# Altium footprint library TerminalBlock_Phoenix.PcbLib: 126 footprints (part 8 of 8)
Each footprint in its own frame and in the unit in brackets; x right, y up, seen from the top. Pads: shape width x height; smd on the part's side, far side on the other; paste and mask are expansions set on the pad; w line width, h text height; cw(c..) or ccw(c..) is an arc to the next point about the centre after c.
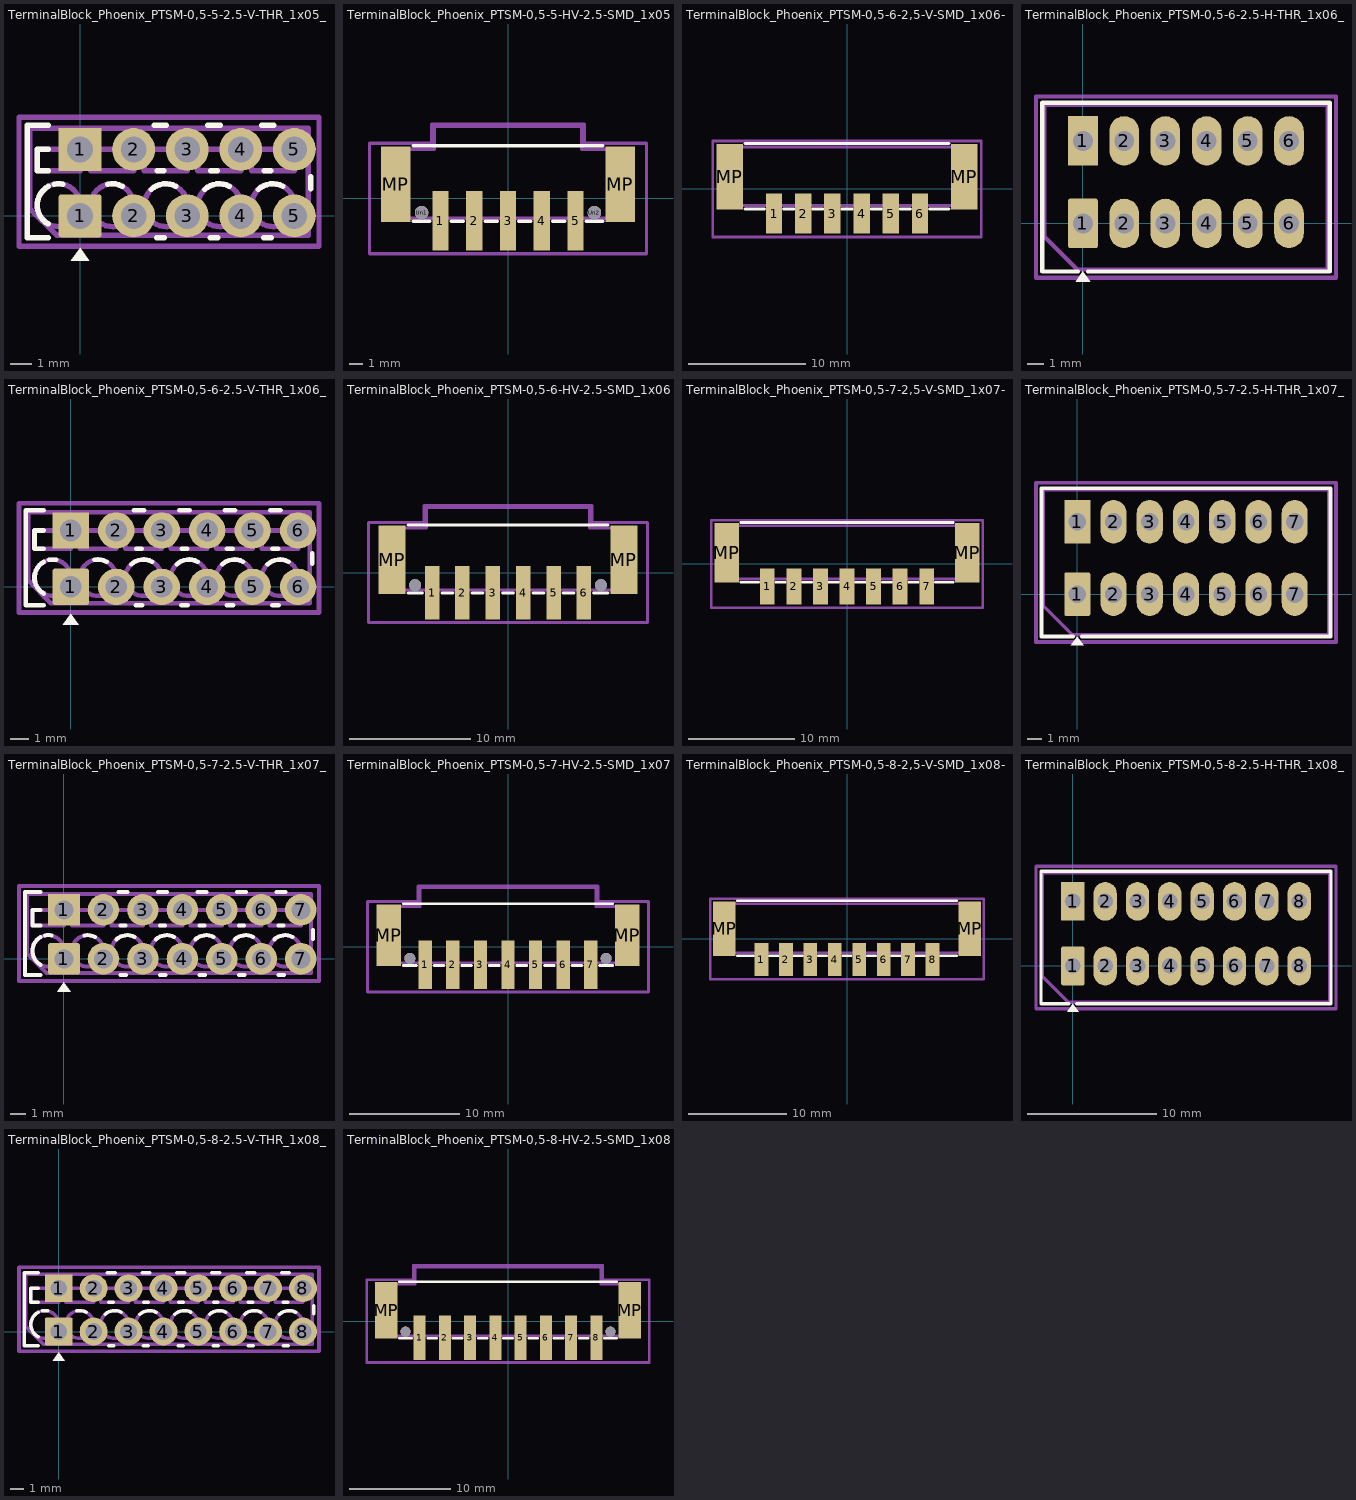
[diagram p7: the footprints below, top view; thin cyan lines are the x and y axes]

## TerminalBlock_Phoenix_PTSM-0,5-5-2.5-V-THR_1x05_P2.50mm_Vertical [mm]
pads (10):
  rrect12% 2x2 hole 1.2: 1(0,0)
  rect 2x2 hole 1.2: 1(0,3.1)
  round 2 hole 1.2: 2(2.5,0) 2(2.5,3.1) 3(5,0) 3(5,3.1) 4(7.5,0) 4(7.5,3.1) 5(10,0) 5(10,3.1)
F.SilkS:
  region: 0.44,-2.09 -0.44,-2.09 0,-1.48
  lines w0.254: -1.48,-1.02 -2.47,-1.02 -2.47,4.22 -1.48,4.22 ; -1.48,-0.377 cw(c-1,0.5) -1.48,1.377 ; -1.48,2.1 -2,2.1 -2,3.1 -1.48,3.1 ; -1.199,1.48 cw(c-1,0.5) -0.801,1.48 ; 1.301,1.48 cw(c1.501,0.508) 1.971,1.382 ; 3.319,1.233 cw(c3.999,0.501) 4.471,1.382 ; 3.467,4.22 4.033,4.22 ; 3.572,-1.02 3.928,-1.02 ; 3.591,2.1 3.909,2.1 ; 5.819,1.233 cw(c6.499,0.501) 6.971,1.382 ; 5.967,4.22 6.533,4.22 ; 6.072,-1.02 6.428,-1.02 ; 6.091,2.1 6.409,2.1 ; 8.319,1.233 cw(c8.999,0.501) 9.471,1.382 ; 8.467,4.22 9.033,4.22 ; 8.572,-1.02 8.928,-1.02 ; 8.591,2.1 8.909,2.1 ; 10.77,1.264 10.77,1.836
F.Fab:
  circle w0.254: c-1,0.5 r1
  circle w0.254: c1.5,0.5 r1
  circle w0.254: c4,0.5 r1
  circle w0.254: c6.5,0.5 r1
  circle w0.254: c9,0.5 r1
  lines w0.254: -2.35,0.35 -2.35,4.1 10.65,4.1 10.65,-0.9 -1.1,-0.9 -2.35,0.35 ; -2,2.1 -2,3.1 0,3.1 0,2.1 -2,2.1 ; 0.5,2.1 0.5,3.1 2.5,3.1 2.5,2.1 0.5,2.1 ; 3,2.1 3,3.1 5,3.1 5,2.1 3,2.1 ; 5.5,2.1 5.5,3.1 7.5,3.1 7.5,2.1 5.5,2.1 ; 8,2.1 8,3.1 10,3.1 10,2.1 8,2.1
  text "'.Designator'" at 0.103,4.32 h1
F.CrtYd:
  lines w0.254: -2.85,-1.41 -2.85,4.6 11.15,4.6 11.15,-1.41 -2.85,-1.41

## TerminalBlock_Phoenix_PTSM-0,5-5-HV-2.5-SMD_1x05-1MP_P2.50mm_Vertical [mm]
pads (9):
  rect 1.2x4.4 smd: 1(-5,-1.65) 2(-2.5,-1.65) 3(0,-1.65) 4(2.5,-1.65) 5(5,-1.65)
  rect 2.2x5.6 smd: MP(-8.3,1.05) MP(8.3,1.05)
  round 1 hole 1: Un1(-6.4,-1.05) Un2(6.4,-1.05)
F.SilkS:
  lines w0.254: -7,-1.7 -5.8,-1.7 ; -7,3.9 7,3.9 ; -4.2,-1.7 -3.3,-1.7 ; -1.7,-1.7 -0.8,-1.7 ; 0.8,-1.7 1.7,-1.7 ; 3.3,-1.7 4.2,-1.7 ; 5.8,-1.7 7,-1.7
F.Fab:
  lines w0.254: -9.05,3.55 -9.05,-1.45 9.05,-1.45 9.05,3.6 ; -9.05,3.65 -5.45,3.65 -5.45,5.35 5.45,5.35 5.45,3.65 9.05,3.65 ; -5.4,-1.45 -5.4,-3.51 -4.6,-3.51 -4.6,-1.45 ; -2.9,-1.45 -2.9,-3.51 -2.1,-3.51 -2.1,-1.45 ; -0.4,-1.45 -0.4,-3.51 0.4,-3.51 0.4,-1.45 ; 2.1,-1.45 2.1,-3.51 2.9,-3.51 2.9,-1.45 ; 4.6,-1.45 4.6,-3.51 5.4,-3.51 5.4,-1.45
  text "'.Designator'" at -4.047,0.08 h1
F.CrtYd:
  lines w0.254: -10.25,-4.1 -10.25,4.1 -5.65,4.1 -5.65,5.5 5.65,5.5 5.65,4.1 10.25,4.1 10.25,-4.1 -10.25,-4.1

## TerminalBlock_Phoenix_PTSM-0,5-6-2,5-V-SMD_1x06-1MP_P2.50mm_Vertical [mm]
pads (8):
  rect 1.4x3.4 smd: 1(-6.25,-2.13) 2(-3.75,-2.13) 3(-1.25,-2.13) 4(1.25,-2.13) 5(3.75,-2.13) 6(6.25,-2.13)
  rect 2.3x5.6 smd: MP(-10.05,1.03) MP(10.05,1.03)
F.SilkS:
  lines w0.254: -8.75,-1.73 -7.05,-1.73 ; -8.75,3.88 8.75,3.88 ; -5.45,-1.73 -4.55,-1.73 ; -2.95,-1.73 -2.05,-1.73 ; -0.45,-1.73 0.45,-1.73 ; 2.05,-1.73 2.95,-1.73 ; 4.55,-1.73 5.45,-1.73 ; 7.05,-1.73 8.75,-1.73
F.Fab:
  lines w0.254: -6.65,-1.43 -6.65,-3.43 -5.85,-3.43 -5.85,-1.43 ; -4.15,-1.43 -4.15,-3.43 -3.35,-3.43 -3.35,-1.43 ; -1.65,-1.43 -1.65,-3.43 -0.85,-3.43 -0.85,-1.43 ; 0.85,-1.43 0.85,-3.43 1.65,-3.43 1.65,-1.43 ; 3.35,-1.43 3.35,-3.43 4.15,-3.43 4.15,-1.43 ; 5.85,-1.43 5.85,-3.43 6.65,-3.43 6.65,-1.43 ; -10.05,-1.43 -10.05,3.58 10.05,3.58 10.05,-1.43 -10.05,-1.43
  text "'.Designator'" at -4.047,-0.765 h1
F.CrtYd:
  lines w0.254: -11.5,-4.13 -11.5,4.08 11.5,4.08 11.5,-4.13 -11.5,-4.13

## TerminalBlock_Phoenix_PTSM-0,5-6-2.5-H-THR_1x06_P2.50mm_Horizontal [mm]
pads (12):
  rrect14% 1.8x3 hole 1.2: 1(0,0)
  rect 1.8x3 hole 1.2: 1(0,5)
  rrect100% 1.8x3 hole 1.2: 2(2.5,0) 2(2.5,5) 3(5,0) 3(5,5) 4(7.5,0) 4(7.5,5) 5(10,0) 5(10,5) 6(12.5,0) 6(12.5,5)
F.SilkS:
  region: 0.44,-3.53 -0.44,-3.53 0,-2.92
  lines w0.254: -0.3,-2.92 -2.47,-2.92 -2.47,7.32 14.97,7.32 14.97,-2.92 0.3,-2.92
F.Fab:
  lines w0.254: -2.35,-0.8 -2.35,7.2 14.85,7.2 14.85,-2.8 -0.35,-2.8 -2.35,-0.8
  text "'.Designator'" at 2.203,1.36 h1
F.CrtYd:
  lines w0.254: -2.85,-3.3 -2.85,7.7 15.35,7.7 15.35,-3.3 -2.85,-3.3

## TerminalBlock_Phoenix_PTSM-0,5-6-2.5-V-THR_1x06_P2.50mm_Vertical [mm]
pads (12):
  rrect12% 2x2 hole 1.2: 1(0,0)
  rect 2x2 hole 1.2: 1(0,3.1)
  round 2 hole 1.2: 2(2.5,0) 2(2.5,3.1) 3(5,0) 3(5,3.1) 4(7.5,0) 4(7.5,3.1) 5(10,0) 5(10,3.1) 6(12.5,0) 6(12.5,3.1)
F.SilkS:
  region: 0.44,-2.09 -0.44,-2.09 0,-1.48
  lines w0.254: -1.48,-1.02 -2.47,-1.02 -2.47,4.22 -1.48,4.22 ; -1.48,-0.377 cw(c-1,0.5) -1.48,1.377 ; -1.48,2.1 -2,2.1 -2,3.1 -1.48,3.1 ; -1.199,1.48 cw(c-1,0.5) -0.801,1.48 ; 1.301,1.48 cw(c1.501,0.508) 1.971,1.382 ; 3.319,1.233 cw(c3.999,0.501) 4.471,1.382 ; 3.467,4.22 4.033,4.22 ; 3.572,-1.02 3.928,-1.02 ; 3.591,2.1 3.909,2.1 ; 5.819,1.233 cw(c6.499,0.501) 6.971,1.382 ; 5.967,4.22 6.533,4.22 ; 6.072,-1.02 6.428,-1.02 ; 6.091,2.1 6.409,2.1 ; 8.319,1.233 cw(c8.999,0.501) 9.471,1.382 ; 8.467,4.22 9.033,4.22 ; 8.572,-1.02 8.928,-1.02 ; 8.591,2.1 8.909,2.1 ; 10.819,1.233 cw(c11.499,0.501) 11.971,1.382 ; 10.967,4.22 11.533,4.22 ; 11.072,-1.02 11.428,-1.02 ; 11.091,2.1 11.409,2.1 ; 13.27,1.264 13.27,1.836
F.Fab:
  circle w0.254: c-1,0.5 r1
  circle w0.254: c1.5,0.5 r1
  circle w0.254: c4,0.5 r1
  circle w0.254: c6.5,0.5 r1
  circle w0.254: c9,0.5 r1
  circle w0.254: c11.5,0.5 r1
  lines w0.254: -2.35,0.35 -2.35,4.1 13.15,4.1 13.15,-0.9 -1.1,-0.9 -2.35,0.35 ; -2,2.1 -2,3.1 0,3.1 0,2.1 -2,2.1 ; 0.5,2.1 0.5,3.1 2.5,3.1 2.5,2.1 0.5,2.1 ; 3,2.1 3,3.1 5,3.1 5,2.1 3,2.1 ; 5.5,2.1 5.5,3.1 7.5,3.1 7.5,2.1 5.5,2.1 ; 8,2.1 8,3.1 10,3.1 10,2.1 8,2.1 ; 10.5,2.1 10.5,3.1 12.5,3.1 12.5,2.1 10.5,2.1
  text "'.Designator'" at 1.353,4.32 h1
F.CrtYd:
  lines w0.254: -2.85,-1.41 -2.85,4.6 13.65,4.6 13.65,-1.41 -2.85,-1.41

## TerminalBlock_Phoenix_PTSM-0,5-6-HV-2.5-SMD_1x06-1MP_P2.50mm_Vertical [mm]
pads (10):
  rect 1.2x4.4 smd: 1(-6.25,-1.65) 2(-3.75,-1.65) 3(-1.25,-1.65) 4(1.25,-1.65) 5(3.75,-1.65) 6(6.25,-1.65)
  rect 2.2x5.6 smd: MP(-9.55,1.05) MP(9.55,1.05)
  round 1 hole 1: Un1(-7.65,-1.05) Un2(7.65,-1.05)
F.SilkS:
  lines w0.254: -8.25,-1.7 -7.05,-1.7 ; -8.25,3.9 8.25,3.9 ; -5.45,-1.7 -4.55,-1.7 ; -2.95,-1.7 -2.05,-1.7 ; -0.45,-1.7 0.45,-1.7 ; 2.05,-1.7 2.95,-1.7 ; 4.55,-1.7 5.45,-1.7 ; 7.05,-1.7 8.25,-1.7
F.Fab:
  lines w0.254: -10.3,3.55 -10.3,-1.45 10.3,-1.45 10.3,3.6 ; -10.3,3.65 -6.7,3.65 -6.7,5.35 6.7,5.35 6.7,3.65 10.3,3.65 ; -6.65,-1.45 -6.65,-3.51 -5.85,-3.51 -5.85,-1.45 ; -4.15,-1.45 -4.15,-3.51 -3.35,-3.51 -3.35,-1.45 ; -1.65,-1.45 -1.65,-3.51 -0.85,-3.51 -0.85,-1.45 ; 0.85,-1.45 0.85,-3.51 1.65,-3.51 1.65,-1.45 ; 3.35,-1.45 3.35,-3.51 4.15,-3.51 4.15,-1.45 ; 5.85,-1.45 5.85,-3.51 6.65,-3.51 6.65,-1.45
  text "'.Designator'" at -4.047,0.08 h1
F.CrtYd:
  lines w0.254: -11.5,-4.1 -11.5,4.1 -6.9,4.1 -6.9,5.5 6.9,5.5 6.9,4.1 11.5,4.1 11.5,-4.1 -11.5,-4.1

## TerminalBlock_Phoenix_PTSM-0,5-7-2,5-V-SMD_1x07-1MP_P2.50mm_Vertical [mm]
pads (9):
  rect 1.4x3.4 smd: 1(-7.5,-2.13) 2(-5,-2.13) 3(-2.5,-2.13) 4(0,-2.13) 5(2.5,-2.13) 6(5,-2.13) 7(7.5,-2.13)
  rect 2.3x5.6 smd: MP(-11.3,1.03) MP(11.3,1.03)
F.SilkS:
  lines w0.254: -10,-1.73 -8.3,-1.73 ; -10,3.88 10,3.88 ; -6.7,-1.73 -5.8,-1.73 ; -4.2,-1.73 -3.3,-1.73 ; -1.7,-1.73 -0.8,-1.73 ; 0.8,-1.73 1.7,-1.73 ; 3.3,-1.73 4.2,-1.73 ; 5.8,-1.73 6.7,-1.73 ; 8.3,-1.73 10,-1.73
F.Fab:
  lines w0.254: -7.9,-1.43 -7.9,-3.43 -7.1,-3.43 -7.1,-1.43 ; -5.4,-1.43 -5.4,-3.43 -4.6,-3.43 -4.6,-1.43 ; -2.9,-1.43 -2.9,-3.43 -2.1,-3.43 -2.1,-1.43 ; -0.4,-1.43 -0.4,-3.43 0.4,-3.43 0.4,-1.43 ; 2.1,-1.43 2.1,-3.43 2.9,-3.43 2.9,-1.43 ; 4.6,-1.43 4.6,-3.43 5.4,-3.43 5.4,-1.43 ; 7.1,-1.43 7.1,-3.43 7.9,-3.43 7.9,-1.43 ; -11.3,-1.43 -11.3,3.58 11.3,3.58 11.3,-1.43 -11.3,-1.43
  text "'.Designator'" at -4.047,-0.765 h1
F.CrtYd:
  lines w0.254: -12.75,-4.13 -12.75,4.08 12.75,4.08 12.75,-4.13 -12.75,-4.13

## TerminalBlock_Phoenix_PTSM-0,5-7-2.5-H-THR_1x07_P2.50mm_Horizontal [mm]
pads (14):
  rrect14% 1.8x3 hole 1.2: 1(0,0)
  rect 1.8x3 hole 1.2: 1(0,5)
  rrect100% 1.8x3 hole 1.2: 2(2.5,0) 2(2.5,5) 3(5,0) 3(5,5) 4(7.5,0) 4(7.5,5) 5(10,0) 5(10,5) 6(12.5,0) 6(12.5,5) 7(15,0) 7(15,5)
F.SilkS:
  region: 0.44,-3.53 -0.44,-3.53 0,-2.92
  lines w0.254: -0.3,-2.92 -2.47,-2.92 -2.47,7.32 17.47,7.32 17.47,-2.92 0.3,-2.92
F.Fab:
  lines w0.254: -2.35,-0.8 -2.35,7.2 17.35,7.2 17.35,-2.8 -0.35,-2.8 -2.35,-0.8
  text "'.Designator'" at 3.453,1.36 h1
F.CrtYd:
  lines w0.254: -2.85,-3.3 -2.85,7.7 17.85,7.7 17.85,-3.3 -2.85,-3.3

## TerminalBlock_Phoenix_PTSM-0,5-7-2.5-V-THR_1x07_P2.50mm_Vertical [mm]
pads (14):
  rrect12% 2x2 hole 1.2: 1(0,0)
  rect 2x2 hole 1.2: 1(0,3.1)
  round 2 hole 1.2: 2(2.5,0) 2(2.5,3.1) 3(5,0) 3(5,3.1) 4(7.5,0) 4(7.5,3.1) 5(10,0) 5(10,3.1) 6(12.5,0) 6(12.5,3.1) 7(15,0) 7(15,3.1)
F.SilkS:
  region: 0.44,-2.09 -0.44,-2.09 0,-1.48
  lines w0.254: -1.48,-1.02 -2.47,-1.02 -2.47,4.22 -1.48,4.22 ; -1.48,-0.377 cw(c-1,0.5) -1.48,1.377 ; -1.48,2.1 -2,2.1 -2,3.1 -1.48,3.1 ; -1.199,1.48 cw(c-1,0.5) -0.801,1.48 ; 1.301,1.48 cw(c1.501,0.508) 1.971,1.382 ; 3.319,1.233 cw(c3.999,0.501) 4.471,1.382 ; 3.467,4.22 4.033,4.22 ; 3.572,-1.02 3.928,-1.02 ; 3.591,2.1 3.909,2.1 ; 5.819,1.233 cw(c6.499,0.501) 6.971,1.382 ; 5.967,4.22 6.533,4.22 ; 6.072,-1.02 6.428,-1.02 ; 6.091,2.1 6.409,2.1 ; 8.319,1.233 cw(c8.999,0.501) 9.471,1.382 ; 8.467,4.22 9.033,4.22 ; 8.572,-1.02 8.928,-1.02 ; 8.591,2.1 8.909,2.1 ; 10.819,1.233 cw(c11.499,0.501) 11.971,1.382 ; 10.967,4.22 11.533,4.22 ; 11.072,-1.02 11.428,-1.02 ; 11.091,2.1 11.409,2.1 ; 13.319,1.233 cw(c13.999,0.501) 14.471,1.382 ; 13.467,4.22 14.033,4.22 ; 13.572,-1.02 13.928,-1.02 ; 13.591,2.1 13.909,2.1 ; 15.77,1.264 15.77,1.836
F.Fab:
  circle w0.254: c-1,0.5 r1
  circle w0.254: c1.5,0.5 r1
  circle w0.254: c4,0.5 r1
  circle w0.254: c6.5,0.5 r1
  circle w0.254: c9,0.5 r1
  circle w0.254: c11.5,0.5 r1
  circle w0.254: c14,0.5 r1
  lines w0.254: -2.35,0.35 -2.35,4.1 15.65,4.1 15.65,-0.9 -1.1,-0.9 -2.35,0.35 ; -2,2.1 -2,3.1 0,3.1 0,2.1 -2,2.1 ; 0.5,2.1 0.5,3.1 2.5,3.1 2.5,2.1 0.5,2.1 ; 3,2.1 3,3.1 5,3.1 5,2.1 3,2.1 ; 5.5,2.1 5.5,3.1 7.5,3.1 7.5,2.1 5.5,2.1 ; 8,2.1 8,3.1 10,3.1 10,2.1 8,2.1 ; 10.5,2.1 10.5,3.1 12.5,3.1 12.5,2.1 10.5,2.1 ; 13,2.1 13,3.1 15,3.1 15,2.1 13,2.1
  text "'.Designator'" at 2.603,4.32 h1
F.CrtYd:
  lines w0.254: -2.85,-1.41 -2.85,4.6 16.15,4.6 16.15,-1.41 -2.85,-1.41

## TerminalBlock_Phoenix_PTSM-0,5-7-HV-2.5-SMD_1x07-1MP_P2.50mm_Vertical [mm]
pads (11):
  rect 1.2x4.4 smd: 1(-7.5,-1.65) 2(-5,-1.65) 3(-2.5,-1.65) 4(0,-1.65) 5(2.5,-1.65) 6(5,-1.65) 7(7.5,-1.65)
  rect 2.2x5.6 smd: MP(-10.8,1.05) MP(10.8,1.05)
  round 1 hole 1: Un1(-8.9,-1.05) Un2(8.9,-1.05)
F.SilkS:
  lines w0.254: -9.5,-1.7 -8.3,-1.7 ; -9.5,3.9 9.5,3.9 ; -6.7,-1.7 -5.8,-1.7 ; -4.2,-1.7 -3.3,-1.7 ; -1.7,-1.7 -0.8,-1.7 ; 0.8,-1.7 1.7,-1.7 ; 3.3,-1.7 4.2,-1.7 ; 5.8,-1.7 6.7,-1.7 ; 8.3,-1.7 9.5,-1.7
F.Fab:
  lines w0.254: -11.55,3.55 -11.55,-1.45 11.55,-1.45 11.55,3.6 ; -11.55,3.65 -7.95,3.65 -7.95,5.35 7.95,5.35 7.95,3.65 11.55,3.65 ; -7.9,-1.45 -7.9,-3.51 -7.1,-3.51 -7.1,-1.45 ; -5.4,-1.45 -5.4,-3.51 -4.6,-3.51 -4.6,-1.45 ; -2.9,-1.45 -2.9,-3.51 -2.1,-3.51 -2.1,-1.45 ; -0.4,-1.45 -0.4,-3.51 0.4,-3.51 0.4,-1.45 ; 2.1,-1.45 2.1,-3.51 2.9,-3.51 2.9,-1.45 ; 4.6,-1.45 4.6,-3.51 5.4,-3.51 5.4,-1.45 ; 7.1,-1.45 7.1,-3.51 7.9,-3.51 7.9,-1.45
  text "'.Designator'" at -4.047,0.08 h1
F.CrtYd:
  lines w0.254: -12.75,-4.1 -12.75,4.1 -8.15,4.1 -8.15,5.5 8.15,5.5 8.15,4.1 12.75,4.1 12.75,-4.1 -12.75,-4.1

## TerminalBlock_Phoenix_PTSM-0,5-8-2,5-V-SMD_1x08-1MP_P2.50mm_Vertical [mm]
pads (10):
  rect 1.4x3.4 smd: 1(-8.75,-2.13) 2(-6.25,-2.13) 3(-3.75,-2.13) 4(-1.25,-2.13) 5(1.25,-2.13) 6(3.75,-2.13) 7(6.25,-2.13) 8(8.75,-2.13)
  rect 2.3x5.6 smd: MP(-12.55,1.03) MP(12.55,1.03)
F.SilkS:
  lines w0.254: -11.25,-1.73 -9.55,-1.73 ; -11.25,3.88 11.25,3.88 ; -7.95,-1.73 -7.05,-1.73 ; -5.45,-1.73 -4.55,-1.73 ; -2.95,-1.73 -2.05,-1.73 ; -0.45,-1.73 0.45,-1.73 ; 2.05,-1.73 2.95,-1.73 ; 4.55,-1.73 5.45,-1.73 ; 7.05,-1.73 7.95,-1.73 ; 9.55,-1.73 11.25,-1.73
F.Fab:
  lines w0.254: -9.15,-1.43 -9.15,-3.43 -8.35,-3.43 -8.35,-1.43 ; -6.65,-1.43 -6.65,-3.43 -5.85,-3.43 -5.85,-1.43 ; -4.15,-1.43 -4.15,-3.43 -3.35,-3.43 -3.35,-1.43 ; -1.65,-1.43 -1.65,-3.43 -0.85,-3.43 -0.85,-1.43 ; 0.85,-1.43 0.85,-3.43 1.65,-3.43 1.65,-1.43 ; 3.35,-1.43 3.35,-3.43 4.15,-3.43 4.15,-1.43 ; 5.85,-1.43 5.85,-3.43 6.65,-3.43 6.65,-1.43 ; 8.35,-1.43 8.35,-3.43 9.15,-3.43 9.15,-1.43 ; -12.55,-1.43 -12.55,3.58 12.55,3.58 12.55,-1.43 -12.55,-1.43
  text "'.Designator'" at -4.047,-0.765 h1
F.CrtYd:
  lines w0.254: -14,-4.13 -14,4.08 14,4.08 14,-4.13 -14,-4.13

## TerminalBlock_Phoenix_PTSM-0,5-8-2.5-H-THR_1x08_P2.50mm_Horizontal [mm]
pads (16):
  rrect14% 1.8x3 hole 1.2: 1(0,0)
  rect 1.8x3 hole 1.2: 1(0,5)
  rrect100% 1.8x3 hole 1.2: 2(2.5,0) 2(2.5,5) 3(5,0) 3(5,5) 4(7.5,0) 4(7.5,5) 5(10,0) 5(10,5) 6(12.5,0) 6(12.5,5) 7(15,0) 7(15,5) 8(17.5,0) 8(17.5,5)
F.SilkS:
  region: 0.44,-3.53 -0.44,-3.53 0,-2.92
  lines w0.254: -0.3,-2.92 -2.47,-2.92 -2.47,7.32 19.97,7.32 19.97,-2.92 0.3,-2.92
F.Fab:
  lines w0.254: -2.35,-0.8 -2.35,7.2 19.85,7.2 19.85,-2.8 -0.35,-2.8 -2.35,-0.8
  text "'.Designator'" at 4.703,1.36 h1
F.CrtYd:
  lines w0.254: -2.85,-3.3 -2.85,7.7 20.35,7.7 20.35,-3.3 -2.85,-3.3

## TerminalBlock_Phoenix_PTSM-0,5-8-2.5-V-THR_1x08_P2.50mm_Vertical [mm]
pads (16):
  rrect12% 2x2 hole 1.2: 1(0,0)
  rect 2x2 hole 1.2: 1(0,3.1)
  round 2 hole 1.2: 2(2.5,0) 2(2.5,3.1) 3(5,0) 3(5,3.1) 4(7.5,0) 4(7.5,3.1) 5(10,0) 5(10,3.1) 6(12.5,0) 6(12.5,3.1) 7(15,0) 7(15,3.1) 8(17.5,0) 8(17.5,3.1)
F.SilkS:
  region: 0.44,-2.09 -0.44,-2.09 0,-1.48
  lines w0.254: -1.48,-1.02 -2.47,-1.02 -2.47,4.22 -1.48,4.22 ; -1.48,-0.377 cw(c-1,0.5) -1.48,1.377 ; -1.48,2.1 -2,2.1 -2,3.1 -1.48,3.1 ; -1.199,1.48 cw(c-1,0.5) -0.801,1.48 ; 1.301,1.48 cw(c1.501,0.508) 1.971,1.382 ; 3.319,1.233 cw(c3.999,0.501) 4.471,1.382 ; 3.467,4.22 4.033,4.22 ; 3.572,-1.02 3.928,-1.02 ; 3.591,2.1 3.909,2.1 ; 5.819,1.233 cw(c6.499,0.501) 6.971,1.382 ; 5.967,4.22 6.533,4.22 ; 6.072,-1.02 6.428,-1.02 ; 6.091,2.1 6.409,2.1 ; 8.319,1.233 cw(c8.999,0.501) 9.471,1.382 ; 8.467,4.22 9.033,4.22 ; 8.572,-1.02 8.928,-1.02 ; 8.591,2.1 8.909,2.1 ; 10.819,1.233 cw(c11.499,0.501) 11.971,1.382 ; 10.967,4.22 11.533,4.22 ; 11.072,-1.02 11.428,-1.02 ; 11.091,2.1 11.409,2.1 ; 13.319,1.233 cw(c13.999,0.501) 14.471,1.382 ; 13.467,4.22 14.033,4.22 ; 13.572,-1.02 13.928,-1.02 ; 13.591,2.1 13.909,2.1 ; 15.819,1.233 cw(c16.499,0.501) 16.971,1.382 ; 15.967,4.22 16.533,4.22 ; 16.072,-1.02 16.428,-1.02 ; 16.091,2.1 16.409,2.1 ; 18.27,1.264 18.27,1.836
F.Fab:
  circle w0.254: c-1,0.5 r1
  circle w0.254: c1.5,0.5 r1
  circle w0.254: c4,0.5 r1
  circle w0.254: c6.5,0.5 r1
  circle w0.254: c9,0.5 r1
  circle w0.254: c11.5,0.5 r1
  circle w0.254: c14,0.5 r1
  circle w0.254: c16.5,0.5 r1
  lines w0.254: -2.35,0.35 -2.35,4.1 18.15,4.1 18.15,-0.9 -1.1,-0.9 -2.35,0.35 ; -2,2.1 -2,3.1 0,3.1 0,2.1 -2,2.1 ; 0.5,2.1 0.5,3.1 2.5,3.1 2.5,2.1 0.5,2.1 ; 3,2.1 3,3.1 5,3.1 5,2.1 3,2.1 ; 5.5,2.1 5.5,3.1 7.5,3.1 7.5,2.1 5.5,2.1 ; 8,2.1 8,3.1 10,3.1 10,2.1 8,2.1 ; 10.5,2.1 10.5,3.1 12.5,3.1 12.5,2.1 10.5,2.1 ; 13,2.1 13,3.1 15,3.1 15,2.1 13,2.1 ; 15.5,2.1 15.5,3.1 17.5,3.1 17.5,2.1 15.5,2.1
  text "'.Designator'" at 3.853,4.32 h1
F.CrtYd:
  lines w0.254: -2.85,-1.41 -2.85,4.6 18.65,4.6 18.65,-1.41 -2.85,-1.41

## TerminalBlock_Phoenix_PTSM-0,5-8-HV-2.5-SMD_1x08-1MP_P2.50mm_Vertical [mm]
pads (12):
  rect 1.2x4.4 smd: 1(-8.75,-1.65) 2(-6.25,-1.65) 3(-3.75,-1.65) 4(-1.25,-1.65) 5(1.25,-1.65) 6(3.75,-1.65) 7(6.25,-1.65) 8(8.75,-1.65)
  rect 2.2x5.6 smd: MP(-12.05,1.05) MP(12.05,1.05)
  round 1 hole 1: Un1(-10.15,-1.05) Un2(10.15,-1.05)
F.SilkS:
  lines w0.254: -10.75,-1.7 -9.55,-1.7 ; -10.75,3.9 10.75,3.9 ; -7.95,-1.7 -7.05,-1.7 ; -5.45,-1.7 -4.55,-1.7 ; -2.95,-1.7 -2.05,-1.7 ; -0.45,-1.7 0.45,-1.7 ; 2.05,-1.7 2.95,-1.7 ; 4.55,-1.7 5.45,-1.7 ; 7.05,-1.7 7.95,-1.7 ; 9.55,-1.7 10.75,-1.7
F.Fab:
  lines w0.254: -12.8,3.55 -12.8,-1.45 12.8,-1.45 12.8,3.6 ; -12.8,3.65 -9.2,3.65 -9.2,5.35 9.2,5.35 9.2,3.65 12.8,3.65 ; -9.15,-1.45 -9.15,-3.51 -8.35,-3.51 -8.35,-1.45 ; -6.65,-1.45 -6.65,-3.51 -5.85,-3.51 -5.85,-1.45 ; -4.15,-1.45 -4.15,-3.51 -3.35,-3.51 -3.35,-1.45 ; -1.65,-1.45 -1.65,-3.51 -0.85,-3.51 -0.85,-1.45 ; 0.85,-1.45 0.85,-3.51 1.65,-3.51 1.65,-1.45 ; 3.35,-1.45 3.35,-3.51 4.15,-3.51 4.15,-1.45 ; 5.85,-1.45 5.85,-3.51 6.65,-3.51 6.65,-1.45 ; 8.35,-1.45 8.35,-3.51 9.15,-3.51 9.15,-1.45
  text "'.Designator'" at -4.047,0.08 h1
F.CrtYd:
  lines w0.254: -14,-4.1 -14,4.1 -9.4,4.1 -9.4,5.5 9.4,5.5 9.4,4.1 14,4.1 14,-4.1 -14,-4.1